# EAGLE library part EDE1188 (library ede)
8x8 matrix keypad encoder
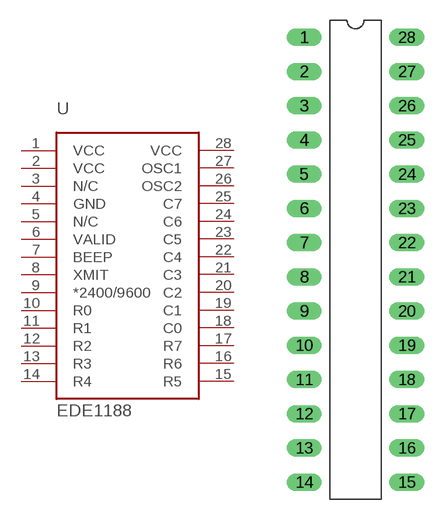
[diagram p4: symbol with the pads of DIP28; footprint DIP28]

Designator prefix U

## EDE1188  [DIP28]
1  VCC
2  VCC
3  N/C
4  GND
5  N/C
6  VALID
7  BEEP
8  XMIT
9  *2400/9600
10  R0
11  R1
12  R2
13  R3
14  R4
15  R5
16  R6
17  R7
18  C0
19  C1
20  C2
21  C3
22  C4
23  C5
24  C6
25  C7
26  OSC2
27  OSC1
28  VCC

## Footprint DIP28 (pad centres in mm)
drill 0.8 long: 1 -3.81,15.875; 2 -3.81,13.335; 3 -3.81,10.795; 4 -3.81,8.255; 5 -3.81,5.715; 6 -3.81,3.175; 7 -3.81,0.635; 8 -3.81,-1.905; 9 -3.81,-4.445; 10 -3.81,-6.985; 11 -3.81,-9.525; 12 -3.81,-12.065; 13 -3.81,-14.605; 14 -3.81,-17.145; 15 3.81,-17.145; 16 3.81,-14.605; 17 3.81,-12.065; 18 3.81,-9.525; 19 3.81,-6.985; 20 3.81,-4.445; 21 3.81,-1.905; 22 3.81,0.635; 23 3.81,3.175; 24 3.81,5.715; 25 3.81,8.255; 26 3.81,10.795; 27 3.81,13.335; 28 3.81,15.875